# Altium schematic symbol library True Variant.SCHLIB: 12 symbols
Pins are listed as number, name and electrical type; pins without a type are passive.

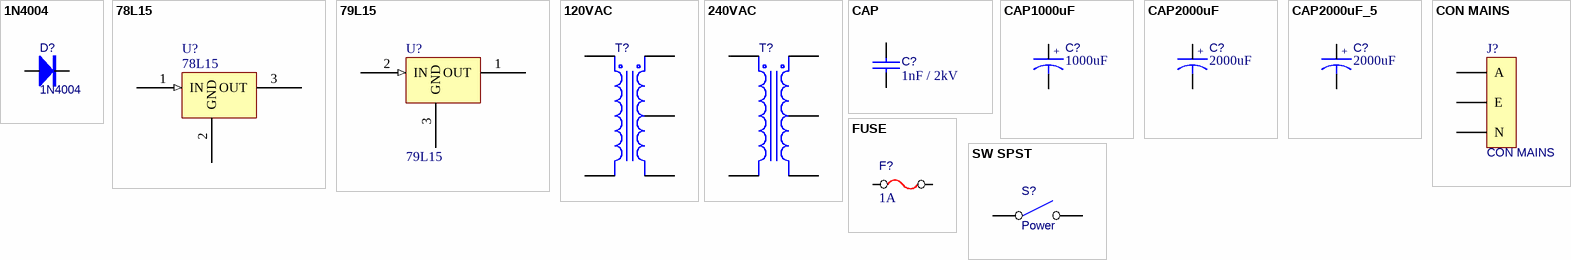
[diagram p0: symbols 1N4004 to SW SPST]

## 1N4004
designator D?
Diode
simulation model 1N4004 (DIODE)
footprint DIODE0.5
pins: 1 A, 2 K

## 78L15
designator U?
Very Low Drop Voltage Regulators With Inhibit
footprint TO-92A
footprint TO-220
pins: 1 IN (in), 2 GND (power), 3 OUT (power)

## 79L15
designator U?
Very Low Drop Voltage Regulators With Inhibit
footprint TO-92A
footprint TO-220
pins: 1 OUT (power), 2 IN (in), 3 GND (power)

## 120VAC
designator T?
Center-Tapped Transformer
footprint TRANSFORMER
pins: 1 Pri+, 2 Pri-, 3 Sec+, 4 SecCT, 5 Sec-

## 240VAC
designator T?
Center-Tapped Transformer
footprint TRANSFORMER
pins: 1 Pri+, 2 Pri-, 3 Sec+, 4 SecCT, 5 Sec-

## CAP
designator C?, comment 1nF / 2kV
Capacitor
simulation model CAP
footprint RAD0.8
pins: 1, 2

## CAP1000uF
designator C?, comment 1000uF
Bi-Polar Capacitor
simulation model CAP
footprint RB.4/.8
pins: 1, 2
text: +

## CAP2000uF
designator C?, comment 2000uF
Bi-Polar Capacitor
simulation model CAP
footprint RB.5/1.0
pins: 1, 2
text: +

## CAP2000uF_5
designator C?, comment 2000uF
Bi-Polar Capacitor
simulation model CAP
footprint RB5
pins: 1, 2
text: +

## CON MAINS
designator J?
Connector
footprint IEC-MAINS
pins: 1 A, 2 E, 3 N

## FUSE
designator F?, comment 1A
Fuse
simulation model FUSE (SUBCKT)
footprint FUSE
pins: 1, 2

## SW SPST
designator S?, comment Power
footprint SW-MAINS
pins: 1 COMMON, 2 NO